# EAGLE library part LPC122XFBD64 (library nxp_60_1_1)
NXP ARM M0 32 bit Microcontroller AAL Eindhoven MV+ MK
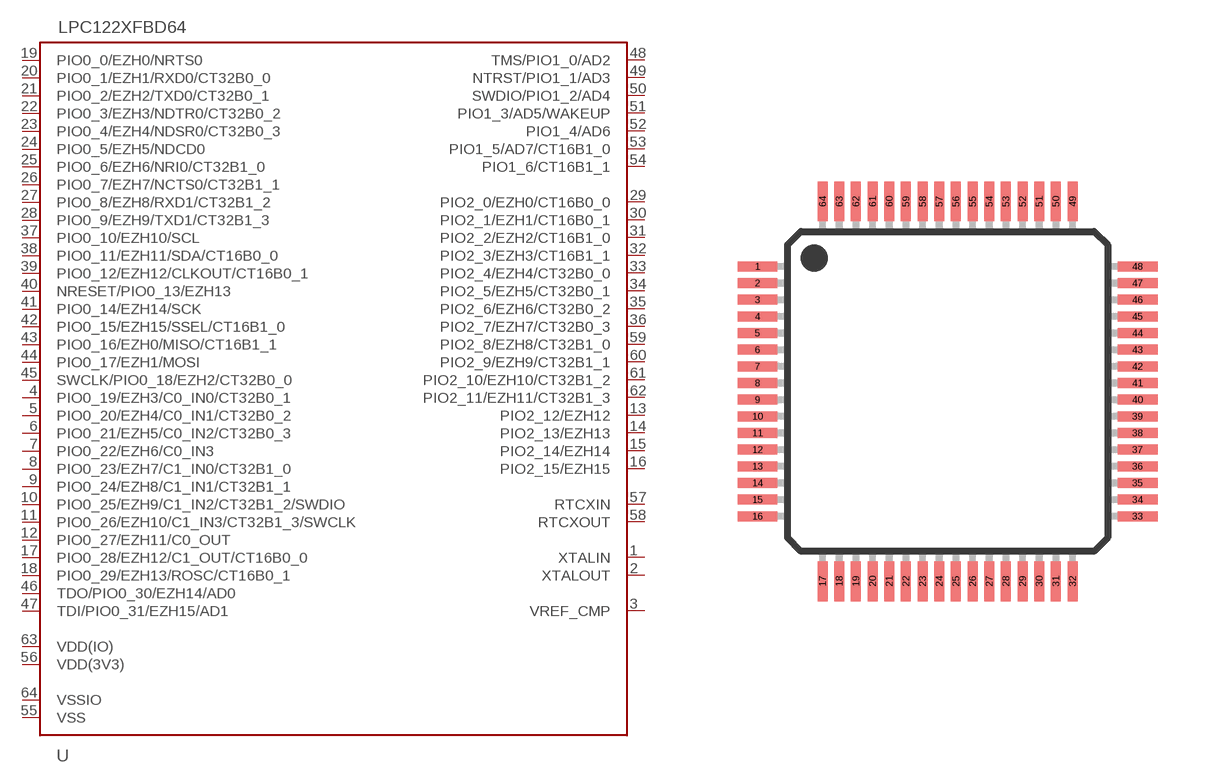
[diagram p0: symbol with the pads of SOT314-2; footprint SOT314-2]

Designator prefix U

## LPC122XFBD64  [SOT314-2]
1  XTALIN
2  XTALOUT
3  VREF_CMP
4  PIO0_19/EZH3/C0_IN0/CT32B0_1
5  PIO0_20/EZH4/C0_IN1/CT32B0_2
6  PIO0_21/EZH5/C0_IN2/CT32B0_3
7  PIO0_22/EZH6/C0_IN3
8  PIO0_23/EZH7/C1_IN0/CT32B1_0
9  PIO0_24/EZH8/C1_IN1/CT32B1_1
10  PIO0_25/EZH9/C1_IN2/CT32B1_2/SWDIO
11  PIO0_26/EZH10/C1_IN3/CT32B1_3/SWCLK
12  PIO0_27/EZH11/C0_OUT
13  PIO2_12/EZH12
14  PIO2_13/EZH13
15  PIO2_14/EZH14
16  PIO2_15/EZH15
17  PIO0_28/EZH12/C1_OUT/CT16B0_0
18  PIO0_29/EZH13/ROSC/CT16B0_1
19  PIO0_0/EZH0/NRTS0
20  PIO0_1/EZH1/RXD0/CT32B0_0
21  PIO0_2/EZH2/TXD0/CT32B0_1
22  PIO0_3/EZH3/NDTR0/CT32B0_2
23  PIO0_4/EZH4/NDSR0/CT32B0_3
24  PIO0_5/EZH5/NDCD0
25  PIO0_6/EZH6/NRI0/CT32B1_0
26  PIO0_7/EZH7/NCTS0/CT32B1_1
27  PIO0_8/EZH8/RXD1/CT32B1_2
28  PIO0_9/EZH9/TXD1/CT32B1_3
29  PIO2_0/EZH0/CT16B0_0
30  PIO2_1/EZH1/CT16B0_1
31  PIO2_2/EZH2/CT16B1_0
32  PIO2_3/EZH3/CT16B1_1
33  PIO2_4/EZH4/CT32B0_0
34  PIO2_5/EZH5/CT32B0_1
35  PIO2_6/EZH6/CT32B0_2
36  PIO2_7/EZH7/CT32B0_3
37  PIO0_10/EZH10/SCL
38  PIO0_11/EZH11/SDA/CT16B0_0
39  PIO0_12/EZH12/CLKOUT/CT16B0_1
40  NRESET/PIO0_13/EZH13
41  PIO0_14/EZH14/SCK
42  PIO0_15/EZH15/SSEL/CT16B1_0
43  PIO0_16/EZH0/MISO/CT16B1_1
44  PIO0_17/EZH1/MOSI
45  SWCLK/PIO0_18/EZH2/CT32B0_0
46  TDO/PIO0_30/EZH14/AD0
47  TDI/PIO0_31/EZH15/AD1
48  TMS/PIO1_0/AD2
49  NTRST/PIO1_1/AD3
50  SWDIO/PIO1_2/AD4
51  PIO1_3/AD5/WAKEUP
52  PIO1_4/AD6
53  PIO1_5/AD7/CT16B1_0
54  PIO1_6/CT16B1_1
55  VSS  pwr
56  VDD(3V3)  pwr
57  RTCXIN
58  RTCXOUT
59  PIO2_8/EZH8/CT32B1_0
60  PIO2_9/EZH9/CT32B1_1
61  PIO2_10/EZH10/CT32B1_2
62  PIO2_11/EZH11/CT32B1_3
63  VDD(IO)  pwr
64  VSSIO  pwr

## Footprint SOT314-2 (pad centres in mm)
SOT314-2 LQFP64: plastic low profile quad flat package; 64 leads; body 10 x 10 x 1.4 mm JEDEC: MS-026 IEC: 136E10
smd 1.2 x 0.3: 1 -5.7,3.75; 2 -5.7,3.25; 3 -5.7,2.75; 4 -5.7,2.25; 5 -5.7,1.75; 6 -5.7,1.25; 7 -5.7,0.75; 8 -5.7,0.25; 9 -5.7,-0.25; 10 -5.7,-0.75; 11 -5.7,-1.25; 12 -5.7,-1.75; 13 -5.7,-2.25; 14 -5.7,-2.75; 15 -5.7,-3.25; 16 -5.7,-3.75; 33 5.7,-3.75; 34 5.7,-3.25; 35 5.7,-2.75; 36 5.7,-2.25; 37 5.7,-1.75; 38 5.7,-1.25; 39 5.7,-0.75; 40 5.7,-0.25; 41 5.7,0.25; 42 5.7,0.75; 43 5.7,1.25; 44 5.7,1.75; 45 5.7,2.25; 46 5.7,2.75; 47 5.7,3.25; 48 5.7,3.75
smd 0.3 x 1.2: 17 -3.75,-5.7; 18 -3.25,-5.7; 19 -2.75,-5.7; 20 -2.25,-5.7; 21 -1.75,-5.7; 22 -1.25,-5.7; 23 -0.75,-5.7; 24 -0.25,-5.7; 25 0.25,-5.7; 26 0.75,-5.7; 27 1.25,-5.7; 28 1.75,-5.7; 29 2.25,-5.7; 30 2.75,-5.7; 31 3.25,-5.7; 32 3.75,-5.7; 49 3.75,5.7; 50 3.25,5.7; 51 2.75,5.7; 52 2.25,5.7; 53 1.75,5.7; 54 1.25,5.7; 55 0.75,5.7; 56 0.25,5.7; 57 -0.25,5.7; 58 -0.75,5.7; 59 -1.25,5.7; 60 -1.75,5.7; 61 -2.25,5.7; 62 -2.75,5.7; 63 -3.25,5.7; 64 -3.75,5.7